# EAGLE library part DM12864A (library CEDT_JANUARY_2015_v6)
Manufacturer: Deepakshi Display Devices Pvt. LTd. Device: DM12864A FSWGBS Datasheet file: 12864A.pdf
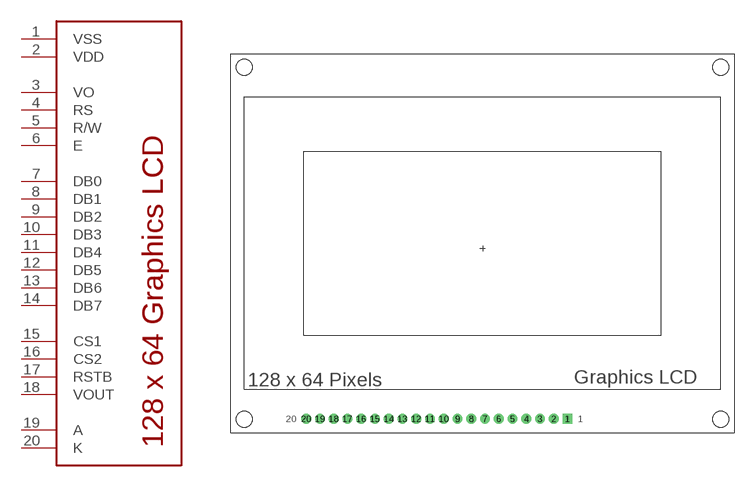
[diagram p16: symbol with the pads of GLCD128X64; footprint GLCD128X64]

Designator prefix LCD

## DM12864A  [GLCD128X64]
1  VSS
2  VDD
3  VO
4  RS
5  R/W
6  E
7  DB0
8  DB1
9  DB2
10  DB3
11  DB4
12  DB5
13  DB6
14  DB7
15  CS1
16  CS2
17  RSTB
18  VOUT
19  A
20  K

## Footprint GLCD128X64 (pad centres in mm)
drill 1.2 square: 1 62.2,2.58
drill 1.2: 2 59.66,2.58; 3 57.12,2.58; 4 54.58,2.58; 5 52.04,2.58; 6 49.5,2.58; 7 46.96,2.58; 8 44.42,2.58; 9 41.88,2.58; 10 39.34,2.58; 11 36.8,2.58; 12 34.26,2.58; 13 31.72,2.58; 14 29.18,2.58; 15 26.64,2.58; 16 24.1,2.58; 17 21.56,2.58; 18 19.02,2.58; 19 16.48,2.58; 20 13.94,2.58
hole 3 at 2.5,2.5
hole 3 at 90.5,2.5
hole 3 at 90.5,67.5
hole 3 at 2.5,67.5